# EAGLE library part OPA4340 (library opa4340)
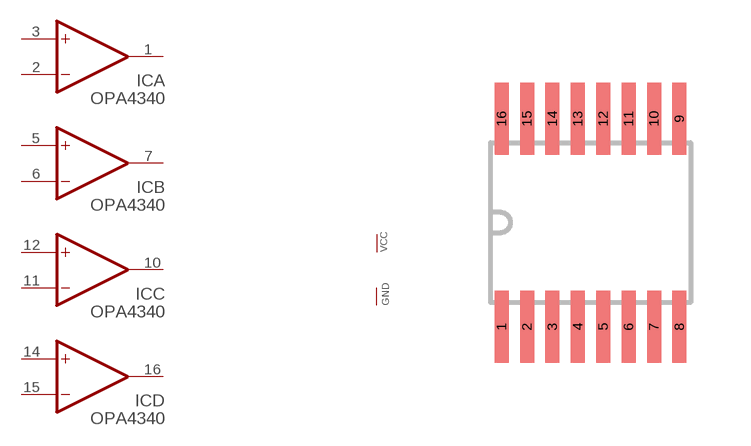
[diagram p0: symbol with the pads of DBQ; footprint DBQ]

Designator prefix IC; gates A=OP B=OP C=OP D=OP G$5=PWR G$6=NC G$7=NC

## OPA4340EA  [DBQ]
1  A:OUT  out
2  A:-IN  in
3  A:+IN  in
4  G$5:VCC  pwr
5  B:+IN  in
6  B:-IN  in
7  B:OUT  out
8  G$6:NC  nc
9  G$7:NC  nc
10  C:OUT  out
11  C:-IN  in
12  C:+IN  in
13  G$5:GND  pwr
14  D:+IN  in
15  D:-IN  in
16  D:OUT  out

## Footprint DBQ (pad centres in mm)
Texas Instruments DBQ (R-PDSO-G16) Plastic Small Outline Package Source: http://www.ti.com/lit/gpn/opa4340
smd 0.35 x 1.8: 1 -2.223,-2.6; 2 -1.587,-2.6; 3 -0.953,-2.6; 4 -0.318,-2.6; 5 0.318,-2.6; 6 0.953,-2.6; 7 1.587,-2.6; 8 2.223,-2.6; 9 2.223,2.6; 10 1.587,2.6; 11 0.953,2.6; 12 0.318,2.6; 13 -0.318,2.6; 14 -0.953,2.6; 15 -1.587,2.6; 16 -2.223,2.6